# EAGLE library part LPC54608J512ET180 (library LPC54608J512ET180)
ARM Microcontrollers - MCU LPC54608J512ET180/TFBGA180///STANDARD MARKING * TR Source: Datasheet <https://www.nxp.com.cn/docs/en/data-sheet/LPC546XX.pdf>
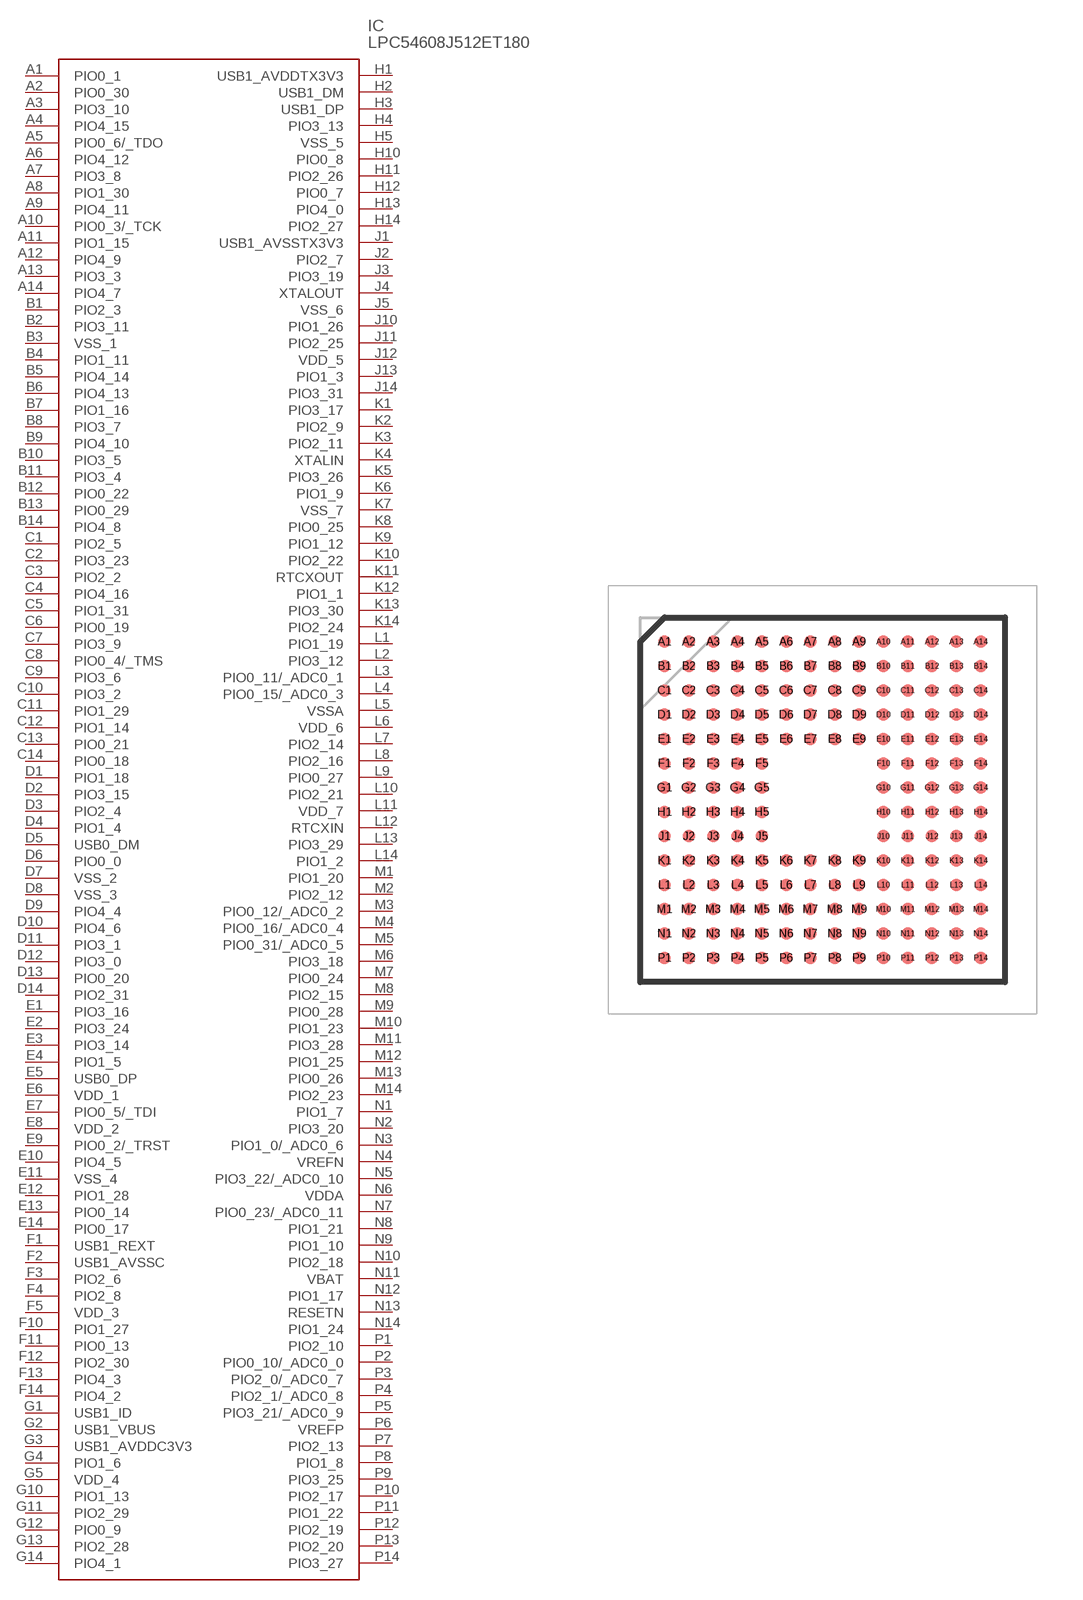
[diagram p0: symbol with the pads of BGA180C80P14X14_1200X1200X120; footprint BGA180C80P14X14_1200X1200X120]

Designator prefix IC

## LPC54608J512ET180 (Description: ARM Microcontrollers - MCU LPC54608J512ET180/TFBGA180///STANDARD MARKING * TR; Height: 1.2mm; Manufacturer_Name: NXP; Manufacturer_Part_Number: LPC54608J512ET180; Mouser_Part_Number: N/A; Mouser_Price-Stock: https://www.mouser.co.uk/ProductDetail/NXP-Semiconductors/LPC54608J512ET180?qs=fAHHVMwC%252BbiwaGA98nObDg%3D%3D)  [BGA180C80P14X14_1200X1200X120]
A1  PIO0_1
A2  PIO0_30
A3  PIO3_10
A4  PIO4_15
A5  PIO0_6/_TDO
A6  PIO4_12
A7  PIO3_8
A8  PIO1_30
A9  PIO4_11
A10  PIO0_3/_TCK
A11  PIO1_15
A12  PIO4_9
A13  PIO3_3
A14  PIO4_7
B1  PIO2_3
B2  PIO3_11
B3  VSS_1
B4  PIO1_11
B5  PIO4_14
B6  PIO4_13
B7  PIO1_16
B8  PIO3_7
B9  PIO4_10
B10  PIO3_5
B11  PIO3_4
B12  PIO0_22
B13  PIO0_29
B14  PIO4_8
C1  PIO2_5
C2  PIO3_23
C3  PIO2_2
C4  PIO4_16
C5  PIO1_31
C6  PIO0_19
C7  PIO3_9
C8  PIO0_4/_TMS
C9  PIO3_6
C10  PIO3_2
C11  PIO1_29
C12  PIO1_14
C13  PIO0_21
C14  PIO0_18
D1  PIO1_18
D2  PIO3_15
D3  PIO2_4
D4  PIO1_4
D5  USB0_DM
D6  PIO0_0
D7  VSS_2
D8  VSS_3
D9  PIO4_4
D10  PIO4_6
D11  PIO3_1
D12  PIO3_0
D13  PIO0_20
D14  PIO2_31
E1  PIO3_16
E2  PIO3_24
E3  PIO3_14
E4  PIO1_5
E5  USB0_DP
E6  VDD_1
E7  PIO0_5/_TDI
E8  VDD_2
E9  PIO0_2/_TRST
E10  PIO4_5
E11  VSS_4
E12  PIO1_28
E13  PIO0_14
E14  PIO0_17
F1  USB1_REXT
F2  USB1_AVSSC
F3  PIO2_6
F4  PIO2_8
F5  VDD_3
F10  PIO1_27
F11  PIO0_13
F12  PIO2_30
F13  PIO4_3
F14  PIO4_2
G1  USB1_ID
G2  USB1_VBUS
G3  USB1_AVDDC3V3
G4  PIO1_6
G5  VDD_4
G10  PIO1_13
G11  PIO2_29
G12  PIO0_9
G13  PIO2_28
G14  PIO4_1
H1  USB1_AVDDTX3V3
H2  USB1_DM
H3  USB1_DP
H4  PIO3_13
H5  VSS_5
H10  PIO0_8
H11  PIO2_26
H12  PIO0_7
H13  PIO4_0
H14  PIO2_27
J1  USB1_AVSSTX3V3
J2  PIO2_7
J3  PIO3_19
J4  XTALOUT
J5  VSS_6
J10  PIO1_26
J11  PIO2_25
J12  VDD_5
J13  PIO1_3
J14  PIO3_31
K1  PIO3_17
K2  PIO2_9
K3  PIO2_11
K4  XTALIN
K5  PIO3_26
K6  PIO1_9
K7  VSS_7
K8  PIO0_25
K9  PIO1_12
K10  PIO2_22
K11  RTCXOUT
K12  PIO1_1
K13  PIO3_30
K14  PIO2_24
L1  PIO1_19
L2  PIO3_12
L3  PIO0_11/_ADC0_1
L4  PIO0_15/_ADC0_3
L5  VSSA
L6  VDD_6
L7  PIO2_14
L8  PIO2_16
L9  PIO0_27
L10  PIO2_21
L11  VDD_7
L12  RTCXIN
L13  PIO3_29
L14  PIO1_2
M1  PIO1_20
M2  PIO2_12
M3  PIO0_12/_ADC0_2
M4  PIO0_16/_ADC0_4
M5  PIO0_31/_ADC0_5
M6  PIO3_18
M7  PIO0_24
M8  PIO2_15
M9  PIO0_28
M10  PIO1_23
M11  PIO3_28
M12  PIO1_25
M13  PIO0_26
M14  PIO2_23
N1  PIO1_7
N2  PIO3_20
N3  PIO1_0/_ADC0_6
N4  VREFN
N5  PIO3_22/_ADC0_10
N6  VDDA
N7  PIO0_23/_ADC0_11
N8  PIO1_21
N9  PIO1_10
N10  PIO2_18
N11  VBAT
N12  PIO1_17
N13  RESETN
N14  PIO1_24
P1  PIO2_10
P2  PIO0_10/_ADC0_0
P3  PIO2_0/_ADC0_7
P4  PIO2_1/_ADC0_8
P5  PIO3_21/_ADC0_9
P6  VREFP
P7  PIO2_13
P8  PIO1_8
P9  PIO3_25
P10  PIO2_17
P11  PIO1_22
P12  PIO2_19
P13  PIO2_20
P14  PIO3_27

## Footprint BGA180C80P14X14_1200X1200X120 (pad centres in mm)
SOT570-3 (TFBGA180)
smd 0.41 x 0.41: A1 -5.2,5.2; A2 -4.4,5.2; A3 -3.6,5.2; A4 -2.8,5.2; A5 -2,5.2; A6 -1.2,5.2; A7 -0.4,5.2; A8 0.4,5.2; A9 1.2,5.2; A10 2,5.2; A11 2.8,5.2; A12 3.6,5.2; A13 4.4,5.2; A14 5.2,5.2; B1 -5.2,4.4; B2 -4.4,4.4; B3 -3.6,4.4; B4 -2.8,4.4; B5 -2,4.4; B6 -1.2,4.4; B7 -0.4,4.4; B8 0.4,4.4; B9 1.2,4.4; B10 2,4.4; B11 2.8,4.4; B12 3.6,4.4; B13 4.4,4.4; B14 5.2,4.4; C1 -5.2,3.6; C2 -4.4,3.6; C3 -3.6,3.6; C4 -2.8,3.6; C5 -2,3.6; C6 -1.2,3.6; C7 -0.4,3.6; C8 0.4,3.6; C9 1.2,3.6; C10 2,3.6; C11 2.8,3.6; C12 3.6,3.6; C13 4.4,3.6; C14 5.2,3.6; D1 -5.2,2.8; D2 -4.4,2.8; D3 -3.6,2.8; D4 -2.8,2.8; D5 -2,2.8; D6 -1.2,2.8; D7 -0.4,2.8; D8 0.4,2.8; D9 1.2,2.8; D10 2,2.8; D11 2.8,2.8; D12 3.6,2.8; D13 4.4,2.8; D14 5.2,2.8; E1 -5.2,2; E2 -4.4,2; E3 -3.6,2; E4 -2.8,2; E5 -2,2; E6 -1.2,2; E7 -0.4,2; E8 0.4,2; E9 1.2,2; E10 2,2; E11 2.8,2; E12 3.6,2; E13 4.4,2; E14 5.2,2; F1 -5.2,1.2; F2 -4.4,1.2; F3 -3.6,1.2; F4 -2.8,1.2; F5 -2,1.2; F10 2,1.2; F11 2.8,1.2; F12 3.6,1.2; F13 4.4,1.2; F14 5.2,1.2; G1 -5.2,0.4; G2 -4.4,0.4; G3 -3.6,0.4; G4 -2.8,0.4; G5 -2,0.4; G10 2,0.4; G11 2.8,0.4; G12 3.6,0.4; G13 4.4,0.4; G14 5.2,0.4; H1 -5.2,-0.4; H2 -4.4,-0.4; H3 -3.6,-0.4; H4 -2.8,-0.4; H5 -2,-0.4; H10 2,-0.4; H11 2.8,-0.4; H12 3.6,-0.4; H13 4.4,-0.4; H14 5.2,-0.4; J1 -5.2,-1.2; J2 -4.4,-1.2; J3 -3.6,-1.2; J4 -2.8,-1.2; J5 -2,-1.2; J10 2,-1.2; J11 2.8,-1.2; J12 3.6,-1.2; J13 4.4,-1.2; J14 5.2,-1.2; K1 -5.2,-2; K2 -4.4,-2; K3 -3.6,-2; K4 -2.8,-2; K5 -2,-2; K6 -1.2,-2; K7 -0.4,-2; K8 0.4,-2; K9 1.2,-2; K10 2,-2; K11 2.8,-2; K12 3.6,-2; K13 4.4,-2; K14 5.2,-2; L1 -5.2,-2.8; L2 -4.4,-2.8; L3 -3.6,-2.8; L4 -2.8,-2.8; L5 -2,-2.8; L6 -1.2,-2.8; L7 -0.4,-2.8; L8 0.4,-2.8; L9 1.2,-2.8; L10 2,-2.8; L11 2.8,-2.8; L12 3.6,-2.8; L13 4.4,-2.8; L14 5.2,-2.8; M1 -5.2,-3.6; M2 -4.4,-3.6; M3 -3.6,-3.6; M4 -2.8,-3.6; M5 -2,-3.6; M6 -1.2,-3.6; M7 -0.4,-3.6; M8 0.4,-3.6; M9 1.2,-3.6; M10 2,-3.6; M11 2.8,-3.6; M12 3.6,-3.6; M13 4.4,-3.6; M14 5.2,-3.6; N1 -5.2,-4.4; N2 -4.4,-4.4; N3 -3.6,-4.4; N4 -2.8,-4.4; N5 -2,-4.4; N6 -1.2,-4.4; N7 -0.4,-4.4; N8 0.4,-4.4; N9 1.2,-4.4; N10 2,-4.4; N11 2.8,-4.4; N12 3.6,-4.4; N13 4.4,-4.4; N14 5.2,-4.4; P1 -5.2,-5.2; P2 -4.4,-5.2; P3 -3.6,-5.2; P4 -2.8,-5.2; P5 -2,-5.2; P6 -1.2,-5.2; P7 -0.4,-5.2; P8 0.4,-5.2; P9 1.2,-5.2; P10 2,-5.2; P11 2.8,-5.2; P12 3.6,-5.2; P13 4.4,-5.2; P14 5.2,-5.2